# Altium integrated library Analog Devices Data Converters Analog-to-Digital Converters.IntLib: 2400 symbols (part 208 of 338)
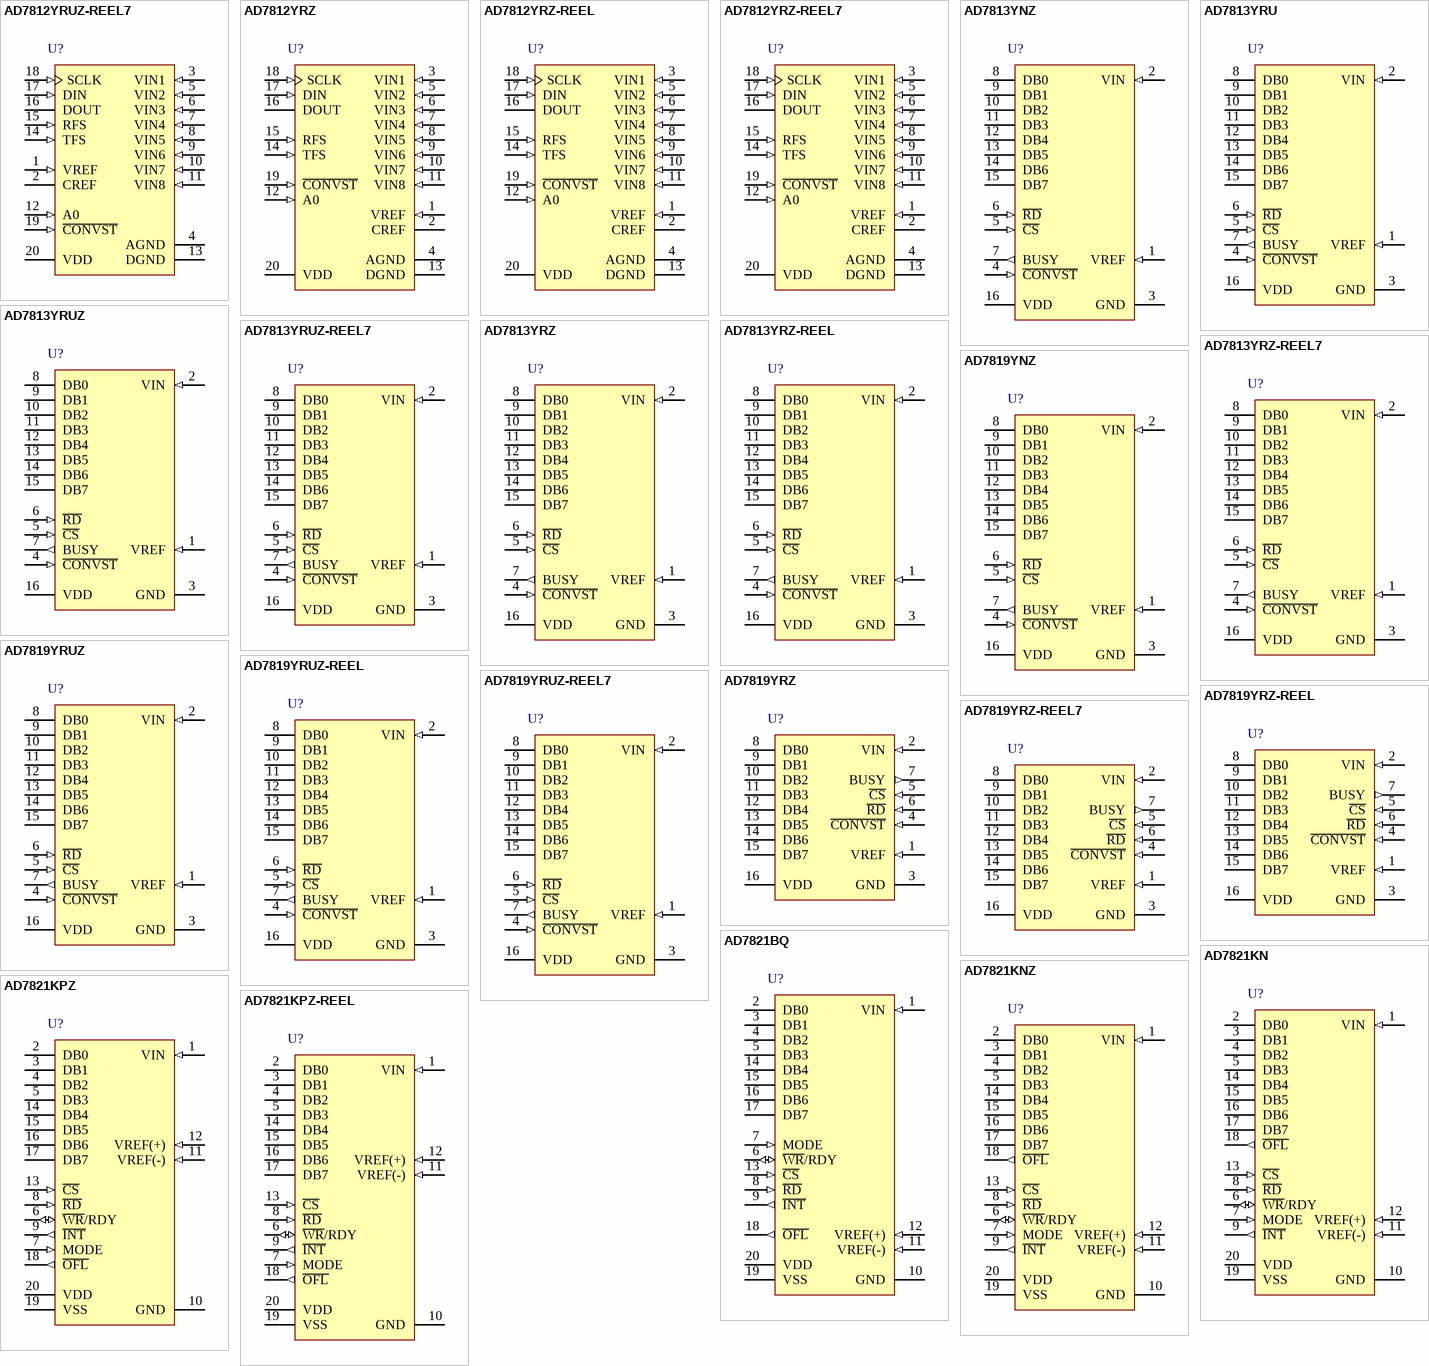
[diagram p369: symbols AD7812YRUZ-REEL7 to AD7821KPZ-REEL]

## AD7819YRUZ-REEL
designator U?
Single 8-Bit Analog-to-Digital Converter with Parallel Interface, 2.7 V to 5.5 V, 200KSPS, -40 to +125 degC, RU-16, Pb-Free, Reel; Part Number: AD7819; Manufacturer: Analog Devices; Resolution (Bits): 8; Channels: 1; Throughput Rate (SPS): 200K; Interface: Par; DatasheetVersion: Rev.B; PackageVersion: Nov-2002; PackageReference: RU-16; PackageDescription: 16-Lead Thin Shrink Small Outline Package [TSSOP]; RoHS: Y; Packing: Reel; Mounting Technology: Surface Mount; Code_JEDEC: MO-153-AB; ComponentLink1Description: Manufacturer URL; ComponentLink1URL: http://www.analog.com/en/index.html; ComponentLink2Description: Datasheet; ComponentLink2URL: http://www.analog.com/static/imported-files/data_sheets/AD7819.pdf; ComponentLink3Description: Package Specification; ComponentLink3URL: http://www.analog.com/static/imported-files/packages/36244347913743854010197452789RU16.pdf; ComponentLink4Description: Product URL; ComponentLink4URL: http://www.analog.com/en/analog-to-digital-converters/ad-converters/ad7819/products/product.html
footprint RU-16_N (TSOP, 16-Leads, Body 5x4.4mm, Pitch 0.65mm, IPC Medium Density)
footprint RU-16_L (TSOP, 16-Leads, Body 5x4.4mm, Pitch 0.65mm, IPC High Density)
footprint RU-16_M (TSOP, 16-Leads, Body 5x4.4mm, Pitch 0.65mm, IPC Low Density)
pins: 1 VREF (in) "Reference Input, 1.2 V to VDD.", 2 VIN (in) "Analog Input, 0 V to VREF.", 3 GND (power) "Analog and Digital Ground.", 4 ~{CONVST} (in) "Convert Start. A low-to-high transition on this pin initiates a 1.5 µs pulse on an internally generated C\O\N\V\S\T\ signal. A high-to-low transition on this line initiates the conversion process if the internalC\O\N\V\S\T\ (See Datasheet)", 5 ~{CS} (in) "Chip Select. This is a logic input. C\S\ is used in conjunction with R\D\ to enable outputs.", 6 ~{RD} (in) "Read Pin. This is a logic input. When C\S\ is low and R\D\ goes low, the DB7-DB0 leave their high impedance state and data is driven onto the data bus.", 7 BUSY (out) "ADC Busy Signal. This is a logic output. This signal goes logic high during the conversion process.", 8 DB0 (hiz) "Data Bit 0 . These outputs are three-state TTL-compatible.", 9 DB1 (hiz) "Data Bit 1. These outputs are three-state TTL-compatible.", 10 DB2 (hiz) "Data Bit 2. These outputs are three-state TTL-compatible.", 11 DB3 (hiz) "Data Bit 3. These outputs are three-state TTL-compatible.", 12 DB4 (hiz) "Data Bit 4. These outputs are three-state TTL-compatible.", 13 DB5 (hiz) "Data Bit 5. These outputs are three-state TTL-compatible.", 14 DB6 (hiz) "Data Bit 6. These outputs are three-state TTL-compatible.", 15 DB7 (hiz) "Data Bit 7. These outputs are three-state TTL-compatible.", 16 VDD (power) "Positive power supply voltage, 2.7 V to 5.5 V."

## AD7819YRUZ-REEL7
designator U?
Single 8-Bit Analog-to-Digital Converter with Parallel Interface, 2.7 V to 5.5 V, 200KSPS, -40 to +125 degC, RU-16, Pb-Free, Reel; Part Number: AD7819; Manufacturer: Analog Devices; Resolution (Bits): 8; Channels: 1; Throughput Rate (SPS): 200K; Interface: Par; DatasheetVersion: Rev.B; PackageVersion: Nov-2002; PackageReference: RU-16; PackageDescription: 16-Lead Thin Shrink Small Outline Package [TSSOP]; RoHS: Y; Packing: Reel; Mounting Technology: Surface Mount; Code_JEDEC: MO-153-AB; ComponentLink1Description: Manufacturer URL; ComponentLink1URL: http://www.analog.com/en/index.html; ComponentLink2Description: Datasheet; ComponentLink2URL: http://www.analog.com/static/imported-files/data_sheets/AD7819.pdf; ComponentLink3Description: Package Specification; ComponentLink3URL: http://www.analog.com/static/imported-files/packages/36244347913743854010197452789RU16.pdf; ComponentLink4Description: Product URL; ComponentLink4URL: http://www.analog.com/en/analog-to-digital-converters/ad-converters/ad7819/products/product.html
footprint RU-16_N (TSOP, 16-Leads, Body 5x4.4mm, Pitch 0.65mm, IPC Medium Density)
footprint RU-16_L (TSOP, 16-Leads, Body 5x4.4mm, Pitch 0.65mm, IPC High Density)
footprint RU-16_M (TSOP, 16-Leads, Body 5x4.4mm, Pitch 0.65mm, IPC Low Density)
pins: 1 VREF (in) "Reference Input, 1.2 V to VDD.", 2 VIN (in) "Analog Input, 0 V to VREF.", 3 GND (power) "Analog and Digital Ground.", 4 ~{CONVST} (in) "Convert Start. A low-to-high transition on this pin initiates a 1.5 µs pulse on an internally generated C\O\N\V\S\T\ signal. A high-to-low transition on this line initiates the conversion process if the internalC\O\N\V\S\T\ (See Datasheet)", 5 ~{CS} (in) "Chip Select. This is a logic input. C\S\ is used in conjunction with R\D\ to enable outputs.", 6 ~{RD} (in) "Read Pin. This is a logic input. When C\S\ is low and R\D\ goes low, the DB7-DB0 leave their high impedance state and data is driven onto the data bus.", 7 BUSY (out) "ADC Busy Signal. This is a logic output. This signal goes logic high during the conversion process.", 8 DB0 (hiz) "Data Bit 0 . These outputs are three-state TTL-compatible.", 9 DB1 (hiz) "Data Bit 1. These outputs are three-state TTL-compatible.", 10 DB2 (hiz) "Data Bit 2. These outputs are three-state TTL-compatible.", 11 DB3 (hiz) "Data Bit 3. These outputs are three-state TTL-compatible.", 12 DB4 (hiz) "Data Bit 4. These outputs are three-state TTL-compatible.", 13 DB5 (hiz) "Data Bit 5. These outputs are three-state TTL-compatible.", 14 DB6 (hiz) "Data Bit 6. These outputs are three-state TTL-compatible.", 15 DB7 (hiz) "Data Bit 7. These outputs are three-state TTL-compatible.", 16 VDD (power) "Positive power supply voltage, 2.7 V to 5.5 V."

## AD7819YRZ
designator U?
Single 8-Bit Analog-to-Digital Converter with Parallel Interface, 2.7 V to 5.5 V, 200KSPS, -40 to +125 degC, R-16, Pb-Free, Tube; Part Number: AD7819; Manufacturer: Analog Devices; Resolution (Bits): 8; Channels: 1; Throughput Rate (SPS): 200K; Interface: Par; DatasheetVersion: Rev.B; PackageVersion: 060606-A; PackageReference: R-16; PackageDescription: 16-Lead Standard Small Outline Package [SOIC_N] Narrow Body; RoHS: Y; Packing: Tube; Mounting Technology: Surface Mount; Code_JEDEC: MS-012-AC; ComponentLink1Description: Manufacturer URL; ComponentLink1URL: http://www.analog.com/en/index.html; ComponentLink2Description: Datasheet; ComponentLink2URL: http://www.analog.com/static/imported-files/data_sheets/AD7819.pdf; ComponentLink3Description: Package Specification; ComponentLink3URL: http://www.analog.com/static/imported-files/packages/PKG_PDF/SOIC_Narrow%20(R)/R_16.pdf; ComponentLink4Description: Product URL; ComponentLink4URL: http://www.analog.com/en/analog-to-digital-converters/ad-converters/ad7819/products/product.html
footprint R-16_N (SOIC, 16-Leads, Body 9.9x3.9mm, Pitch 1.27mm, IPC Medium Density)
footprint R-16_L (SOIC, 16-Leads, Body 9.9x3.9mm, Pitch 1.27mm, IPC High Density)
footprint R-16_M (SOIC, 16-Leads, Body 9.9x3.9mm, Pitch 1.27mm, IPC Low Density)
pins: 1 VREF (in) "Reference Input, 1.2 V to VDD.", 2 VIN (in) "Analog Input, 0 V to VREF.", 3 GND "Analog and Digital Ground.", 4 ~{CONVST} (in) "Convert Start. A low-to-high transition on this pin initiates a 1.5 us pulse on an internally generated C\O\N\V\S\T\ signal. A high-to-low transition on this line initiates the conversion process if the internal C\O\N\V\S\T\ (See Datasheet)", 5 ~{CS} (in) "Chip Select. This is a logic input. C\S\ is used in conjunction with R\D\ to enable outputs.", 6 ~{RD} (in) "Read Pin. This is a logic input. When C\S\ is low and R\D\ goes low, the DB7-DB0 leave their high impedance state and data is driven onto the data bus.", 7 BUSY (out) "ADC Busy Signal. This is a logic output. This signal goes logic high during the conversion process.", 8 DB0 (hiz) "Data Bit 0. These outputs are three-state TTL-compatible.", 9 DB1 (hiz) "Data Bit 1. These outputs are three-state TTL-compatible.", 10 DB2 (hiz) "Data Bit 2. These outputs are three-state TTL-compatible.", 11 DB3 (hiz) "Data Bit 3. These outputs are three-state TTL-compatible.", 12 DB4 (hiz) "Data Bit 4. These outputs are three-state TTL-compatible.", 13 DB5 (hiz) "Data Bit 5. These outputs are three-state TTL-compatible.", 14 DB6 (hiz) "Data Bit 6. These outputs are three-state TTL-compatible.", 15 DB7 (hiz) "Data Bit 7. These outputs are three-state TTL-compatible.", 16 VDD (power) "Positive power supply voltage, 2.7 V to 5.5 V."

## AD7819YRZ-REEL
designator U?
Single 8-Bit Analog-to-Digital Converter with Parallel Interface, 2.7 V to 5.5 V, 200KSPS, -40 to +125 degC, R-16, Pb-Free, Reel; Part Number: AD7819; Manufacturer: Analog Devices; Resolution (Bits): 8; Channels: 1; Throughput Rate (SPS): 200K; Interface: Par; DatasheetVersion: Rev.B; PackageVersion: 060606-A; PackageReference: R-16; PackageDescription: 16-Lead Standard Small Outline Package [SOIC_N] Narrow Body; RoHS: Y; Packing: Reel; Mounting Technology: Surface Mount; Code_JEDEC: MS-012-AC; ComponentLink1Description: Manufacturer URL; ComponentLink1URL: http://www.analog.com/en/index.html; ComponentLink2Description: Datasheet; ComponentLink2URL: http://www.analog.com/static/imported-files/data_sheets/AD7819.pdf; ComponentLink3Description: Package Specification; ComponentLink3URL: http://www.analog.com/static/imported-files/packages/PKG_PDF/SOIC_Narrow%20(R)/R_16.pdf; ComponentLink4Description: Product URL; ComponentLink4URL: http://www.analog.com/en/analog-to-digital-converters/ad-converters/ad7819/products/product.html
footprint R-16_N (SOIC, 16-Leads, Body 9.9x3.9mm, Pitch 1.27mm, IPC Medium Density)
footprint R-16_L (SOIC, 16-Leads, Body 9.9x3.9mm, Pitch 1.27mm, IPC High Density)
footprint R-16_M (SOIC, 16-Leads, Body 9.9x3.9mm, Pitch 1.27mm, IPC Low Density)
pins: 1 VREF (in) "Reference Input, 1.2 V to VDD.", 2 VIN (in) "Analog Input, 0 V to VREF.", 3 GND "Analog and Digital Ground.", 4 ~{CONVST} (in) "Convert Start. A low-to-high transition on this pin initiates a 1.5 us pulse on an internally generated C\O\N\V\S\T\ signal. A high-to-low transition on this line initiates the conversion process if the internal C\O\N\V\S\T\ (See Datasheet)", 5 ~{CS} (in) "Chip Select. This is a logic input. C\S\ is used in conjunction with R\D\ to enable outputs.", 6 ~{RD} (in) "Read Pin. This is a logic input. When C\S\ is low and R\D\ goes low, the DB7-DB0 leave their high impedance state and data is driven onto the data bus.", 7 BUSY (out) "ADC Busy Signal. This is a logic output. This signal goes logic high during the conversion process.", 8 DB0 (hiz) "Data Bit 0. These outputs are three-state TTL-compatible.", 9 DB1 (hiz) "Data Bit 1. These outputs are three-state TTL-compatible.", 10 DB2 (hiz) "Data Bit 2. These outputs are three-state TTL-compatible.", 11 DB3 (hiz) "Data Bit 3. These outputs are three-state TTL-compatible.", 12 DB4 (hiz) "Data Bit 4. These outputs are three-state TTL-compatible.", 13 DB5 (hiz) "Data Bit 5. These outputs are three-state TTL-compatible.", 14 DB6 (hiz) "Data Bit 6. These outputs are three-state TTL-compatible.", 15 DB7 (hiz) "Data Bit 7. These outputs are three-state TTL-compatible.", 16 VDD (power) "Positive power supply voltage, 2.7 V to 5.5 V."

## AD7819YRZ-REEL7
designator U?
Single 8-Bit Analog-to-Digital Converter with Parallel Interface, 2.7 V to 5.5 V, 200KSPS, -40 to +125 degC, R-16, Pb-Free, Reel; Part Number: AD7819; Manufacturer: Analog Devices; Resolution (Bits): 8; Channels: 1; Throughput Rate (SPS): 200K; Interface: Par; DatasheetVersion: Rev.B; PackageVersion: 060606-A; PackageReference: R-16; PackageDescription: 16-Lead Standard Small Outline Package [SOIC_N] Narrow Body; RoHS: Y; Packing: Reel; Mounting Technology: Surface Mount; Code_JEDEC: MS-012-AC; ComponentLink1Description: Manufacturer URL; ComponentLink1URL: http://www.analog.com/en/index.html; ComponentLink2Description: Datasheet; ComponentLink2URL: http://www.analog.com/static/imported-files/data_sheets/AD7819.pdf; ComponentLink3Description: Package Specification; ComponentLink3URL: http://www.analog.com/static/imported-files/packages/PKG_PDF/SOIC_Narrow%20(R)/R_16.pdf; ComponentLink4Description: Product URL; ComponentLink4URL: http://www.analog.com/en/analog-to-digital-converters/ad-converters/ad7819/products/product.html
footprint R-16_N (SOIC, 16-Leads, Body 9.9x3.9mm, Pitch 1.27mm, IPC Medium Density)
footprint R-16_L (SOIC, 16-Leads, Body 9.9x3.9mm, Pitch 1.27mm, IPC High Density)
footprint R-16_M (SOIC, 16-Leads, Body 9.9x3.9mm, Pitch 1.27mm, IPC Low Density)
pins: 1 VREF (in) "Reference Input, 1.2 V to VDD.", 2 VIN (in) "Analog Input, 0 V to VREF.", 3 GND "Analog and Digital Ground.", 4 ~{CONVST} (in) "Convert Start. A low-to-high transition on this pin initiates a 1.5 us pulse on an internally generated C\O\N\V\S\T\ signal. A high-to-low transition on this line initiates the conversion process if the internal C\O\N\V\S\T\ (See Datasheet)", 5 ~{CS} (in) "Chip Select. This is a logic input. C\S\ is used in conjunction with R\D\ to enable outputs.", 6 ~{RD} (in) "Read Pin. This is a logic input. When C\S\ is low and R\D\ goes low, the DB7-DB0 leave their high impedance state and data is driven onto the data bus.", 7 BUSY (out) "ADC Busy Signal. This is a logic output. This signal goes logic high during the conversion process.", 8 DB0 (hiz) "Data Bit 0. These outputs are three-state TTL-compatible.", 9 DB1 (hiz) "Data Bit 1. These outputs are three-state TTL-compatible.", 10 DB2 (hiz) "Data Bit 2. These outputs are three-state TTL-compatible.", 11 DB3 (hiz) "Data Bit 3. These outputs are three-state TTL-compatible.", 12 DB4 (hiz) "Data Bit 4. These outputs are three-state TTL-compatible.", 13 DB5 (hiz) "Data Bit 5. These outputs are three-state TTL-compatible.", 14 DB6 (hiz) "Data Bit 6. These outputs are three-state TTL-compatible.", 15 DB7 (hiz) "Data Bit 7. These outputs are three-state TTL-compatible.", 16 VDD (power) "Positive power supply voltage, 2.7 V to 5.5 V."

## AD7821BQ
designator U?
Single 8-Bit uP Compatible Analog-to-Digital Converter with Parallel Interface and Track / Hold, LC2MOS, 1MSPS, -40 to +85 degC, Q-20, Tube; Part Number: AD7821; Manufacturer: Analog Devices; Resolution (Bits): 8; Channels: 1; Throughput Rate (SPS): 1M; Interface: Par; DatasheetVersion: Rev.B; PackageVersion: Dec-2004; PackageReference: Q-20; PackageDescription: 20-Lead Ceramic Dual In-Line Package [CERDIP]; RoHS: N; Packing: Tube; Mounting Technology: Through-hole; ComponentLink1Description: Manufacturer URL; ComponentLink1URL: http://www.analog.com/en/index.html; ComponentLink2Description: Datasheet; ComponentLink2URL: http://www.analog.com/static/imported-files/data_sheets/AD7821.pdf; ComponentLink3Description: Package Specification; ComponentLink3URL: http://www.analog.com/static/imported-files/packages/50516416473314Q_20.pdf; ComponentLink4Description: Product URL; ComponentLink4URL: http://www.analog.com/en/analog-to-digital-converters/ad-converters/ad7821/products/product.html
footprint Q-20 (DIP, 20-Leads, Row Spacing 7.62mm, Pitch 2.54mm, Body 25.9x6.7mm)
pins: 1 VIN (in) "Analog Input: Range VREF(-) =< VIN =< VREF(+)", 2 DB0 (hiz) "Three-State Data Output (LSB)", 3 DB1 (hiz) "Three-State Data Outputs", 4 DB2 (hiz) "Three-State Data Outputs", 5 DB3 (hiz) "Three-State Data Outputs", 6 ~{WR}/RDY (io) "WRITE control input/READY status output. See Digital Interface section.", 7 MODE (in) "Mode Selection Input. It determines whether the device operates in the WR-RD or RD mode. This input is internally pulled low through a 50 uA current source. See Digital Interface section.", 8 ~{RD} (in) "READ Input. R\D\ must be low to access data from the part. See Digital Interface section.", 9 ~{INT} (out) "INTERRUPT Output. I\N\T\ going low indicates that the conversion is complete. I\N\T\ returns high on the rising edge of C\S\ or R\D\. See Digital Interface section.", 10 GND (power) "Ground", 11 VREF(-) (in) "Lower limit of reference span. Range: VSS =< VREF(-) =< VREF(+).", 12 VREF(+) (in) "Upper limit of reference span. Range: VREF(-) < VREF(+) =< VDD.", 13 ~{CS} (in) "Chip Select Input. The device is selected when this input is low.", 14 DB4 (hiz) "Three-State Data Outputs", 15 DB5 (hiz) "Three-State Data Outputs", 16 DB6 (hiz) "Three-State Data Outputs", 17 DB7 (hiz) "Three-State Data Output (MSB)", 18 ~{OFL} (out) "Overflow Output. If the analog input is higher than (VREF(+) - 1/2 LSB), O\F\L\ will be low at the end of conversion. It is a non-three-state output which can be used to cascade two or more devices to increase resolution.", 19 VSS (power) "Negative Supply Voltage VSS = 0 V; Unipolar Operation VSS = -5 V; Bipolar Operation", 20 VDD (power) "Positive Supply Voltage, +5 V"